# Altium schematic symbol library Schematic_Button.SchLib: 5 symbols
Pins are listed as number, name and electrical type; pins without a type are passive.

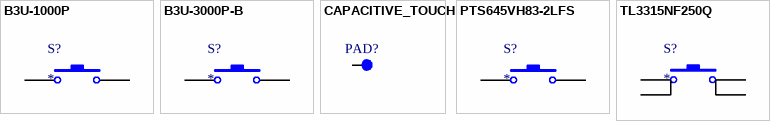
[diagram p0: symbols B3U-1000P to TL3315NF250Q]

## B3U-1000P
designator S?
OMRON ELECTRONIC COMPONENTS         B3U-1000P            SWITCH, SPST-NO, 0.05A, 12V, SMD; Mechanical Life: 200000Cycles; Operating Force: 1.5N; Throw Configuration: SPST; Current Rating: 50mA; Contact Resistance: 100mR; Illumination Type: Non-Illuminated,Illuminated; Switch Travel: 0.15mm; Switch Function: Off-Mom; Actuator Type: Standard; Actuator Length: 0.4mm; Ratings: Dust Proof,IP40; Supplier 1: Digi-Key; Manufacturer: Omron; Manufacturer Part Number: B3U-1000P; Stock 1: 38234; Pricing 1: 1=0.84000, 10=0.80700, 25=0.76080, 50=0.66960, 100=0.60880, 250=0.57836, 500=0.56312, 1000=0.44137 (USD); RoHS: Yes; Mount: Surface Mount; Weight: 0.000776oz; Contact Material: Silver; Min Operating Temperature: -25°C; Max Operating Temperature: 70°C; Packaging: Tape and Reel; Voltage Rating (DC): 12V; Package Quantity: 1; Max Current Rating: 50mA; Termination: SMD/SMT; Orientation: Straight; Max Voltage Rating (DC): 12V; Electrical Life: 200000Cycles; Insulation Resistance: 100MR; Contact Current Rating: 50mA; Length: 4mm; Height: 1.2mm; Depth: 2.5mm; Width: 3mm; REACH SVHC: Unknown; Lead Free: Lead Free; ComponentLink1URL: https://datasheet.ciiva.com/26917/getdatasheetpartid-552554-26917552.pdf?src-supplier=Verical; ComponentLink1Description: https://datasheet.ciiva.com/26917/getdatasheetpartid-552554-26917552.pdf?src-supplier=Verical; ComponentLink2URL: https://datasheet.ciiva.com/22696/1685550-22696214.pdf?src-supplier=Element14; ComponentLink2Description: https://datasheet.ciiva.com/22696/1685550-22696214.pdf?src-supplier=Element14; ComponentLink3URL: https://datasheet.ciiva.com/1532/1685550-1532680.pdf?src-supplier=Element14; ComponentLink3Description: https://datasheet.ciiva.com/1532/1685550-1532680.pdf?src-supplier=Element14; ComponentLink4URL: https://datasheet.ciiva.com/1634/1685550-1634396.pdf?src-supplier=Farnell; ComponentLink4Description: https://datasheet.ciiva.com/1634/1685550-1634396.pdf?src-supplier=Farnell; ComponentLink5URL: https://datasheet.ciiva.com/14142/b3u-eng-datasheet-14142540.pdf?src-supplier=Distrelec; ComponentLink5Description: https://datasheet.ciiva.com/14142/b3u-eng-datasheet-14142540.pdf?src-supplier=Distrelec; ComponentLink6URL: https://datasheet.ciiva.com/2900/b3u-1110-2900029.pdf?src-supplier=Digi-Key; ComponentLink6Description: https://datasheet.ciiva.com/2900/b3u-1110-2900029.pdf?src-supplier=Digi-Key; ComponentLink7URL: https://datasheet.ciiva.com/16155/en-b3u-16155021.pdf?src-supplier=Onlinecomponents.com; ComponentLink7Description: https://datasheet.ciiva.com/16155/en-b3u-16155021.pdf?src-supplier=Onlinecomponents.com; ComponentLink8URL: https://datasheet.ciiva.com/2900/b3u-1110-2900030.pdf?src-supplier=Digi-Key; ComponentLink8Description: https://datasheet.ciiva.com/2900/b3u-1110-2900030.pdf?src-supplier=Digi-Key; ComponentLink9URL: https://datasheet.ciiva.com/16862/70176037-16862846.pdf?src-supplier=Allied+Electronics; ComponentLink9Description: https://datasheet.ciiva.com/16862/70176037-16862846.pdf?src-supplier=Allied+Electronics; ComponentLink10URL: https://datasheet.ciiva.com/2900/b3u-1110-2900031.pdf?src-supplier=Digi-Key; ComponentLink10Description: https://datasheet.ciiva.com/2900/b3u-1110-2900031.pdf?src-supplier=Digi-Key
footprint B3U-1000P (SWITCH TACTILE SPST-NO 0.05A 12V)
pins: 1, 2

## B3U-3000P-B
designator S?
Switch Tactile N.O. SPST Button Gull Wing 0.05A 12VDC 1.59N SMD Embossed T/R; Manufacturer: Omron; Manufacturer Part Number: B3U-3000P-B; Mechanical Life: 100000Cycles; Illumination Type: Non-Illuminated,Illuminated; Insulation Resistance: 100MR; Contact Current Rating: 50mA; Voltage Rating (DC): 12V; Switch Travel: 0.2mm; Switch Function: Off-Mom; Actuator Length: 0.7mm; Ratings: Dust Proof; Supplier 1: Digi-Key; RoHS: Yes; Category: Tactile Switches; Stock 1: 25144; Pricing 1: 1=0.98000, 10=0.94300, 25=0.88120, 100=0.76500, 250=0.69612, 500=0.64536, 1000=0.59822 (USD); Mount: Surface Mount; Weight: 0.000776oz; Min Operating Temperature: -25°C; Max Operating Temperature: 70°C; Termination: SMD/SMT; Electrical Life: 100000Cycles; Max Current Rating: 50mA; Operating Force: 1.59N; Packaging: Tape and Reel; Throw Configuration: SPST; Contact Resistance: 100mR; Package Quantity: 1; Current Rating: 50mA; Max Voltage Rating (DC): 12V; Orientation: Right Angle; Length: 4mm; Height: 1.2mm; Depth: 3.2mm; Width: 3mm; Radiation Hardening: No; REACH SVHC: No SVHC; Lead Free: Lead Free; ComponentLink1URL: https://datasheet.ciiva.com/26945/getdatasheetpartid-788439-26945782.pdf?src-supplier=Verical; ComponentLink1Description: https://datasheet.ciiva.com/26945/getdatasheetpartid-788439-26945782.pdf?src-supplier=Verical; ComponentLink2URL: https://datasheet.ciiva.com/1634/60838-1634401.pdf?src-supplier=Farnell; ComponentLink2Description: https://datasheet.ciiva.com/1634/60838-1634401.pdf?src-supplier=Farnell; ComponentLink3URL: https://datasheet.ciiva.com/16861/70176037-16861125.pdf?src-supplier=Allied+Electronics; ComponentLink3Description: https://datasheet.ciiva.com/16861/70176037-16861125.pdf?src-supplier=Allied+Electronics; ComponentLink4URL: https://datasheet.ciiva.com/2900/b3u-1110-2900041.pdf?src-supplier=Digi-Key; ComponentLink4Description: https://datasheet.ciiva.com/2900/b3u-1110-2900041.pdf?src-supplier=Digi-Key; ComponentLink5URL: https://datasheet.ciiva.com/2900/b3u-1110-2900042.pdf?src-supplier=Digi-Key; ComponentLink5Description: https://datasheet.ciiva.com/2900/b3u-1110-2900042.pdf?src-supplier=Digi-Key; ComponentLink6URL: https://datasheet.ciiva.com/1532/60838-1532683.pdf?src-supplier=Element14; ComponentLink6Description: https://datasheet.ciiva.com/1532/60838-1532683.pdf?src-supplier=Element14; ComponentLink7URL: https://datasheet.ciiva.com/22696/60838-22696215.pdf?src-supplier=Element14; ComponentLink7Description: https://datasheet.ciiva.com/22696/60838-22696215.pdf?src-supplier=Element14; ComponentLink8URL: https://datasheet.ciiva.com/2900/b3u-1110-2900043.pdf?src-supplier=Digi-Key; ComponentLink8Description: https://datasheet.ciiva.com/2900/b3u-1110-2900043.pdf?src-supplier=Digi-Key; ComponentLink9URL: https://datasheet.ciiva.com/30119/en-b3u-30119821.pdf?src-supplier=Onlinecomponents.com; ComponentLink9Description: https://datasheet.ciiva.com/30119/en-b3u-30119821.pdf?src-supplier=Onlinecomponents.com
footprint B3U-3000P-B (SWITCH TACTILE SPST-NO 0.05A 12V)
pins: 1, 2

## CAPACITIVE_TOUCH
designator PAD?
Capacitive Touch Button
footprint CAPACTIVE_TOUCH (Capactive touch button)
pins: 1

## PTS645VH83-2LFS
designator S?
SWITCH TACTILE SPST-NO 0.05A 12V; Manufacturer: ITT C&K; Manufacturer Part Number: PTS645VH83-2LFS; Mechanical Life: 100000Cycles; Actuator Material: Nylon,Polyamide; Operating Force: 1.96N; Throw Configuration: SPST; Illumination Type: Non-Illuminated; Switch Function: Off-Mom; Max Current Rating: 50mA; Actuator Type: Standard; Supplier 1: Digi-Key; RoHS: Yes; Category: Tactile Switches; Stock 1: 26414; Pricing 1: 1=0.31000, 10=0.30400, 25=0.29360, 50=0.28320, 100=0.26740, 250=0.25168, 500=0.24118, 1000=0.18351, 5000=0.15205 (USD); Mount: Through Hole; Contact Plating: Silver; Contact Material: Bronze; Color: Black; Min Operating Temperature: -20°C; Max Operating Temperature: 60°C; Termination: PC Pins; Packaging: Bulk; Max Voltage Rating (DC): 12V; Orientation: Right Angle; Voltage Rating (DC): 12V; Current Rating: 50mA; Package Quantity: 1000; Length: 8.5mm; Depth: 12.3mm; Radiation Hardening: No; Lead Free: Lead Free; ComponentLink1URL: https://datasheet.ciiva.com/26930/getdatasheetpartid-759839-26930136.pdf?src-supplier=Verical; ComponentLink1Description: https://datasheet.ciiva.com/26930/getdatasheetpartid-759839-26930136.pdf?src-supplier=Verical; ComponentLink2URL: https://datasheet.ciiva.com/14920/pts645-14920698.pdf?src-supplier=Digi-Key; ComponentLink2Description: https://datasheet.ciiva.com/14920/pts645-14920698.pdf?src-supplier=Digi-Key
footprint PTS645VH83-2 LFS (SWITCH TACTILE SPST-NO 0.05A 12V)
pins: 1, 2

## TL3315NF250Q
designator S?
Switch Tactile N.O. SPST Gull Wing 0.05A 15VDC 2.45N SMD; Manufacturer: E-Switch; Manufacturer Part Number: TL3315NF250Q; Mechanical Life: 200000Cycles; Current Rating: 50mA; Operating Force: 250gf; Voltage Rating (DC): 15V; Contact Resistance: 200mR; Illumination Type: Non-Illuminated; Switch Travel: 0.2mm; Switch Function: Off-Mom; Number of Positions: 2NUMBER; Actuator Length: 0mm; Supplier 1: Digikey; RoHS: Yes; Category: Tactile Switches; Stock 1: 220027; Pricing 1: 1=0.15, 10=0.135, 25=0.1264, 100=0.1138, 250=0.10568, 500=0.09974, 1000=0.09412, 2500=0.08726 (USD); Mounting Technology: Surface Mount; Case/Package: SMD/SMT; Color: Yellow; Contact Plating: Silver; Contact Material: Silver; Min Operating Temperature: -20°C; Max Operating Temperature: 70°C; Package Quantity: 5000; Packaging: Tape and Reel; Max Voltage Rating (DC): 15V; Throw Configuration: SPST; Termination: Gull Wing; Electrical Life: 200000Cycles; Orientation: Straight; Series: TL3315; Contact Current Rating: 50mA; Height: 850um; Size: 5mm; Lead Free: Lead Free; RoHS Compliant: Yes; ComponentLink1URL: https://datasheet.ciiva.com/2902/p010338b-2902694.pdf?src-supplier=Digikey; ComponentLink1Description: https://datasheet.ciiva.com/2902/p010338b-2902694.pdf?src-supplier=Digikey; ComponentLink2URL: https://datasheet.ciiva.com/2902/tl3315-2902695.pdf?src-supplier=Digikey; ComponentLink2Description: https://datasheet.ciiva.com/2902/tl3315-2902695.pdf?src-supplier=Digikey; ComponentLink3URL: https://datasheet.ciiva.com/2902/tl3315-2902696.pdf?src-supplier=Digikey; ComponentLink3Description: https://datasheet.ciiva.com/2902/tl3315-2902696.pdf?src-supplier=Digikey; ComponentLink4URL: https://datasheet.ciiva.com/16156/tl3315-16156334.pdf?src-supplier=Onlinecomponents.com; ComponentLink4Description: https://datasheet.ciiva.com/16156/tl3315-16156334.pdf?src-supplier=Onlinecomponents.com
footprint TL3315NF250Q (SWITCH TACTILE SPST-NO 0.05A 15V)
pins: 1, 2, 3, 4